# Altium footprint library SamacSys_Parts.PCBLIB: 34 footprints (part 2 of 3)
Each footprint in its own frame and in the unit in brackets; x right, y up, seen from the top. Pads: shape width x height; smd on the part's side, far side on the other; paste and mask are expansions set on the pad; w line width, h text height; cw(c..) or ccw(c..) is an arc to the next point about the centre after c.
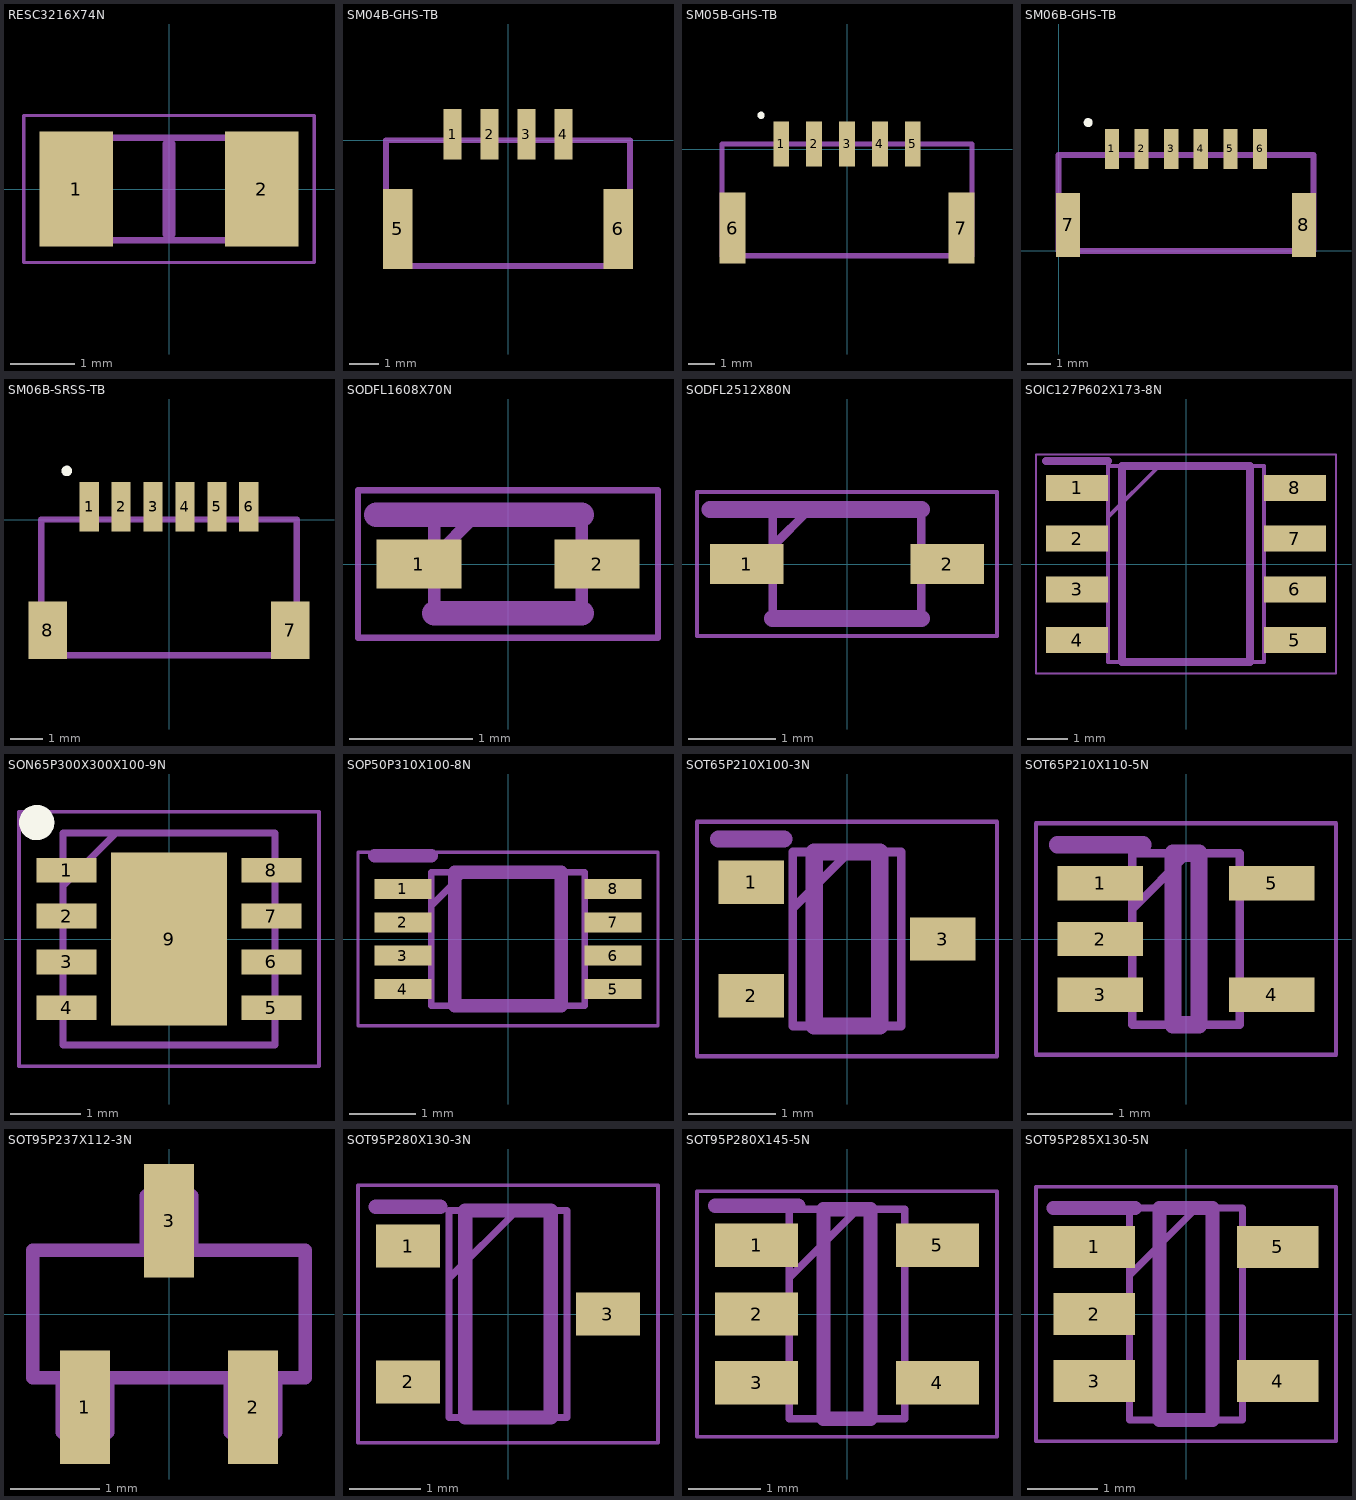
[diagram p1: the footprints below, top view; thin cyan lines are the x and y axes]

## RESC3216X74N [mm]
pads (2):
  rect 1.15x1.8 smd: 1(-1.45,0) 2(1.45,0)
tDocu:
  lines w0.05: -2.275,-1.15 2.275,-1.15 2.275,1.15 -2.275,1.15 -2.275,-1.15
  lines w0.1: -1.59,-0.8 1.59,-0.8 1.59,0.8 -1.59,0.8 -1.59,-0.8
tPlace:
  lines w0.2: 0,-0.7 0,0.7

## SM04B-GHS-TB [mm]
pads (6):
  rect 0.6x1.7 smd: 1(-1.875,0.2) 2(-0.625,0.2) 3(0.625,0.2) 4(1.875,0.2)
  rect 1x2.7 smd: 5(-3.725,-3) 6(3.725,-3)
tDocu:
  lines w0.2: -4.125,-4.25 4.125,-4.25 4.125,0 -4.125,0 -4.125,-4.25
tPlace:
  lines w0.2: -4.125,-1.4 -4.125,0 -2.5,0 ; -2.9,-4.25 2.9,-4.25 ; 2.5,0 4.125,0 4.125,-1.4

## SM05B-GHS-TB [mm]
pads (7):
  rect 0.6x1.7 smd: 1(-2.5,0.2) 2(-1.25,0.2) 3(0,0.2) 4(1.25,0.2) 5(2.5,0.2)
  rect 1x2.7 smd: 6(-4.35,-3) 7(4.35,-3)
Top Overlay:
  circle w0.2: c-3.263,1.288 r0.036
tDocu:
  lines w0.2: -4.75,-4.05 4.75,-4.05 4.75,0.2 -4.75,0.2 -4.75,-4.05
tPlace:
  lines w0.2: -4.75,-1.429 -4.75,0.2 -3.153,0.2 ; -3.5,-4.05 3.5,-4.05 ; 3.153,0.2 4.75,0.2 4.75,-1.429

## SM06B-GHS-TB [mm]
pads (8):
  rect 0.6x1.7 smd: 1(2.25,4.3) 2(3.5,4.3) 3(4.75,4.3) 4(6,4.3) 5(7.25,4.3) 6(8.5,4.3)
  rect 1x2.7 smd: 7(0.4,1.1) 8(10.35,1.1)
Top Overlay:
  circle w0.254: c1.249,5.411 r0.06
tDocu:
  lines w0.254: 0,0 10.75,0 10.75,4.05 0,4.05 0,0
tPlace:
  lines w0.254: 0,2.678 0,4.05 1.731,4.05 ; 1.263,0 9.519,0 ; 8.995,4.05 10.75,4.05 10.75,2.706

## SM06B-SRSS-TB [mm]
pads (8):
  rect 0.6x1.55 smd: 1(-2.5,0.4) 2(-1.5,0.4) 3(-0.5,0.4) 4(0.5,0.4) 5(1.5,0.4) 6(2.5,0.4)
  rect 1.2x1.8 smd: 7(3.8,-3.475) 8(-3.8,-3.475)
Top Overlay:
  circle w0.2: c-3.204,1.523 r0.064
tDocu:
  lines w0.2: -4,-4.25 4,-4.25 4,0 -4,0 -4,-4.25
tPlace:
  lines w0.2: -4,-2.125 -4,0 -3.1,0 ; -2.9,-4.25 2.9,-4.25 ; 3.1,0 4,0 4,-2.125

## SODFL1608X70N [mm]
pads (2):
  rect 0.69x0.4 smd: 1(-0.725,0) 2(0.725,0)
tDocu:
  lines w0.05: -1.22,-0.6 1.22,-0.6 1.22,0.6 -1.22,0.6 -1.22,-0.6
  lines w0.1: -0.6,0.055 -0.255,0.4 ; -0.6,-0.4 0.6,-0.4 0.6,0.4 -0.6,0.4 -0.6,-0.4
tPlace:
  lines w0.2: -1.07,0.4 0.6,0.4 ; -0.6,-0.4 0.6,-0.4

## SODFL2512X80N [mm]
pads (2):
  rect 0.84x0.46 smd: 1(-1.15,0) 2(1.15,0)
tDocu:
  lines w0.05: -1.72,-0.825 1.72,-0.825 1.72,0.825 -1.72,0.825 -1.72,-0.825
  lines w0.1: -0.85,0.205 -0.43,0.625 ; -0.85,-0.625 0.85,-0.625 0.85,0.625 -0.85,0.625 -0.85,-0.625
tPlace:
  lines w0.2: -1.57,0.625 0.85,0.625 ; -0.85,-0.625 0.85,-0.625

## SOIC127P602X173-8N [mm]
pads (8):
  rect 1.551x0.65 smd: 1(-2.725,1.905) 2(-2.725,0.635) 3(-2.725,-0.635) 4(-2.725,-1.905) 5(2.725,-1.905) 6(2.725,-0.635) 7(2.725,0.635) 8(2.725,1.905)
tDocu:
  lines w0.05: -3.75,-2.739 3.75,-2.739 3.75,2.739 -3.75,2.739 -3.75,-2.739
  lines w0.1: -1.949,1.174 -0.679,2.444 ; -1.949,-2.444 1.949,-2.444 1.949,2.444 -1.949,2.444 -1.949,-2.444
tPlace:
  lines w0.2: -3.5,2.58 -1.949,2.58 ; -1.599,-2.444 1.599,-2.444 1.599,2.444 -1.599,2.444 -1.599,-2.444

## SON65P300X300X100-9N [mm]
pads (9):
  rect 0.85x0.35 smd: 1(-1.45,0.975) 2(-1.45,0.325) 3(-1.45,-0.325) 4(-1.45,-0.975) 5(1.45,-0.975) 6(1.45,-0.325) 7(1.45,0.325) 8(1.45,0.975)
  rect 1.65x2.45 smd: 9(0,0)
Top Overlay:
  circle w0.25: c-1.875,1.65 r0.125
tDocu:
  lines w0.05: -2.125,-1.8 2.125,-1.8 2.125,1.8 -2.125,1.8 -2.125,-1.8
  lines w0.1: -1.5,0.75 -0.75,1.5 ; -1.5,-1.5 1.5,-1.5 1.5,1.5 -1.5,1.5 -1.5,-1.5

## SOP50P310X100-8N [mm]
pads (8):
  rect 0.85x0.3 smd: 1(-1.575,0.75) 2(-1.575,0.25) 3(-1.575,-0.25) 4(-1.575,-0.75) 5(1.575,-0.75) 6(1.575,-0.25) 7(1.575,0.25) 8(1.575,0.75)
tDocu:
  lines w0.05: -2.25,-1.3 2.25,-1.3 2.25,1.3 -2.25,1.3 -2.25,-1.3
  lines w0.1: -1.15,0.5 -0.65,1 ; -1.15,-1 1.15,-1 1.15,1 -1.15,1 -1.15,-1
tPlace:
  lines w0.2: -2,1.25 -1.15,1.25 ; -0.8,-1 0.8,-1 0.8,1 -0.8,1 -0.8,-1

## SOT65P210X100-3N [mm]
pads (3):
  rect 0.75x0.5 smd: 1(-1.1,0.65) 2(-1.1,-0.65) 3(1.1,0)
tDocu:
  lines w0.05: -1.725,-1.35 1.725,-1.35 1.725,1.35 -1.725,1.35 -1.725,-1.35
  lines w0.1: -0.625,0.35 0.025,1 ; -0.625,-1 0.625,-1 0.625,1 -0.625,1 -0.625,-1
tPlace:
  lines w0.2: -1.475,1.15 -0.725,1.15 ; -0.375,-1 0.375,-1 0.375,1 -0.375,1 -0.375,-1

## SOT65P210X110-5N [mm]
pads (5):
  rect 1x0.4 smd: 1(-1,0.65) 2(-1,0) 3(-1,-0.65) 4(1,-0.65) 5(1,0.65)
tDocu:
  lines w0.05: -1.75,-1.35 1.75,-1.35 1.75,1.35 -1.75,1.35 -1.75,-1.35
  lines w0.1: -0.625,0.35 0.025,1 ; -0.625,-1 0.625,-1 0.625,1 -0.625,1 -0.625,-1
tPlace:
  lines w0.2: -1.5,1.1 -0.5,1.1 ; -0.15,-1 0.15,-1 0.15,1 -0.15,1 -0.15,-1

## SOT95P237X112-3N [mil]
pads (3):
  rect 22x50 smd: 1(-37,-41) 2(37,-41) 3(0,41)
tDocu:
  lines w6: -60,-28 60,-28 60,28 -60,28 -60,-28 ; -47,-52 -47,-28 -27,-28 -27,-52 -47,-52 ; -10,28 10,28 10,52 -10,52 -10,28 ; 27,-52 27,-28 47,-28 47,-52 27,-52
tPlace:
  lines w6: -60,-10 -60,28 -24,28 ; -13,-28 13,-28 ; 24,28 60,28 60,-10

## SOT95P280X130-3N [mm]
pads (3):
  rect 0.9x0.6 smd: 1(-1.4,0.95) 2(-1.4,-0.95) 3(1.4,0)
tDocu:
  lines w0.05: -2.1,-1.8 2.1,-1.8 2.1,1.8 -2.1,1.8 -2.1,-1.8
  lines w0.1: -0.825,0.5 0.125,1.45 ; -0.825,-1.45 0.825,-1.45 0.825,1.45 -0.825,1.45 -0.825,-1.45
tPlace:
  lines w0.2: -1.85,1.5 -0.95,1.5 ; -0.6,-1.45 0.6,-1.45 0.6,1.45 -0.6,1.45 -0.6,-1.45

## SOT95P280X145-5N [mm]
pads (5):
  rect 1.15x0.6 smd: 1(-1.25,0.95) 2(-1.25,0) 3(-1.25,-0.95) 4(1.25,-0.95) 5(1.25,0.95)
tDocu:
  lines w0.05: -2.075,-1.7 2.075,-1.7 2.075,1.7 -2.075,1.7 -2.075,-1.7
  lines w0.1: -0.8,0.5 0.15,1.45 ; -0.8,-1.45 0.8,-1.45 0.8,1.45 -0.8,1.45 -0.8,-1.45
tPlace:
  lines w0.2: -1.825,1.5 -0.675,1.5 ; -0.325,-1.45 0.325,-1.45 0.325,1.45 -0.325,1.45 -0.325,-1.45

## SOT95P285X130-5N [mm]
pads (5):
  rect 1.15x0.6 smd: 1(-1.3,0.95) 2(-1.3,0) 3(-1.3,-0.95) 4(1.3,-0.95) 5(1.3,0.95)
tDocu:
  lines w0.05: -2.125,-1.8 2.125,-1.8 2.125,1.8 -2.125,1.8 -2.125,-1.8
  lines w0.1: -0.8,0.55 0.15,1.5 ; -0.8,-1.5 0.8,-1.5 0.8,1.5 -0.8,1.5 -0.8,-1.5
tPlace:
  lines w0.2: -1.875,1.5 -0.725,1.5 ; -0.375,-1.5 0.375,-1.5 0.375,1.5 -0.375,1.5 -0.375,-1.5